# EAGLE library part FTDI (library PiB_connectors)
FTDI Basic header with labels
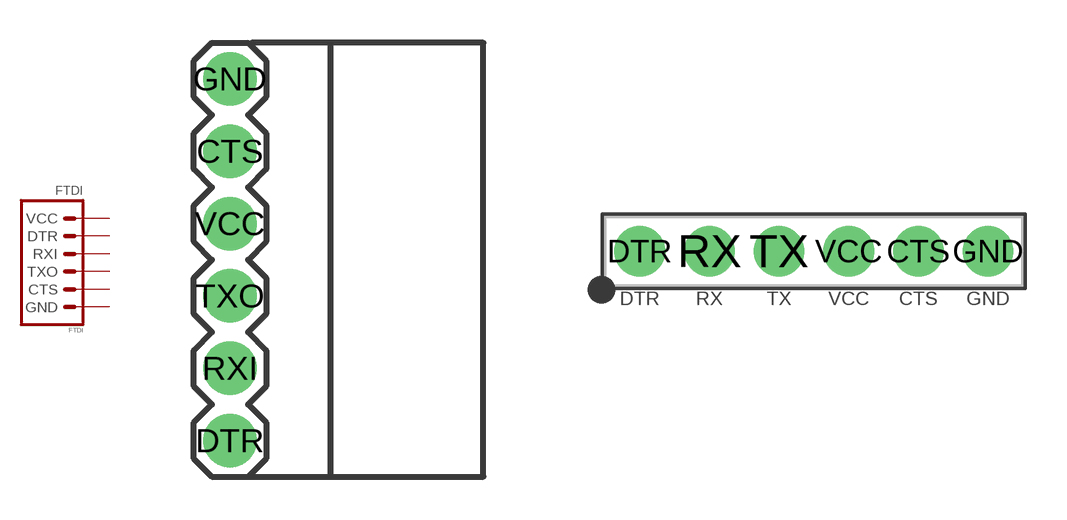
[diagram p5: symbol with the pads of FTDI_BASIC-6PIN-MALE-RA; footprints FTDI_BASIC-6PIN-MALE-RA, HDRV6W64P254_1X6_1524X254X838B_FTDI]

Designator prefix FTDI

## FTDI_PTH_RA-MALE (DATASHEET: https://media.digikey.com/pdf/Data%20Sheets/Sparkfun%20PDFs/DEV-09873_Web.pdf; DATASHEET_CONNECTOR: https://cdn.amphenol-icc.com/media/wysiwyg/files/drawing/68015.pdf; DIST: Digikey; DISTLINK: https://www.digikey.com/products/en?keywords=1568-1104-ND; DISTLINK_CONNECTOR: https://www.digikey.com/products/en?keywords=609-3327-ND; DISTPN: 1568-1104-ND; DISTPN_CONNECTOR: 609-3327-ND; DIST_CONNECTOR: Digikey; MFR: SparkFun Electronics; MFR_CONNECTOR: Amphenol FCI; MPN: DEV-09873; MPN_CONNECTOR: 68016-406HLF; VALUE: FTDI)  [FTDI_BASIC-6PIN-MALE-RA]
CTS  CTS  nc
DTR  DTR
GND  GND  pwr
RXI  RXI  in
TXO  TXO  out
VCC  VCC  nc

## FTDI_PTH_VERT_MALE_2.54MM (DATASHEET: https://media.digikey.com/pdf/Data%20Sheets/Sparkfun%20PDFs/DEV-09873_Web.pdf; DATASHEET_CONNECTOR: https://drawings-pdf.s3.amazonaws.com/C10436.pdf; DIST: Digikey; DISTLINK: https://www.digikey.com/products/en?keywords=1568-1104-ND; DISTLINK_CONNECTOR: https://www.digikey.com/products/en?keywords=PEC06SAAN; DISTPN: 1568-1104-ND; DISTPN_CONNECTOR: S1012E-06-ND; DIST_CONNECTOR: Digikey; MFR: SparkFun Electronics; MFR_CONNECTOR: Sullins Connector Solutions; MPN: DEV-09873; MPN_CONNECTOR: PEC06SAAN; VALUE: FTDI)  [HDRV6W64P254_1X6_1524X254X838B_FTDI]
CTS  CTS  nc
DTR  DTR
GND  GND  pwr
RX  RXI  in
TX  TXO  out
VCC  VCC  nc

## FTDI_PTH_RA_FEMALE_2.54MM (DATASHEET: https://drawings-pdf.s3.amazonaws.com/10493.pdf; DIST: Digikey; DISTLINK: https://www.digikey.com/products/en?keywords=PPTC061LGBN-RC; DISTPN: S5442-ND; MFR: Sullins Connector Solutions; MPN: PPTC061LGBN-RC; VALUE: PTH RA FEMALE)  [HDRRAR6W60P254_1X6_1574X850X274B_FTDI]
Pads as for HDRV6W64P254_1X6_1524X254X838B_FTDI

## Footprint FTDI_BASIC-6PIN-MALE-RA (pad centres in mm)
drill 1.016 pad 1.88: CTS 0,3.76; DTR 0,-6.4; GND 0,6.3; RXI 0,-3.86; TXO 0,-1.32; VCC 0,1.22

## Footprint HDRV6W64P254_1X6_1524X254X838B_FTDI (pad centres in mm)
Single-row, 6-pin Pin Header (Male) Straight, 2.54 mm (0.10 in) col pitch, 5.84 mm mating length, 15.24 X 2.54 X 8.38 mm body Single-row (1X6), 6-pin Pin Header (Male) Straight package with 2.54 mm (0.10 in) col pitch, 0.64 mm lead width, 3.05 mm tail length and 5.84 mm mating length with overall size 15.24 X 2.54 X 8.38 mm, pin pattern - clockwise from top left
drill 1 pad 1.85: CTS 10.16,0; DTR 0,0; GND 12.7,0; RX 2.54,0; TX 5.08,0; VCC 7.62,0

## Footprint HDRRAR6W60P254_1X6_1574X850X274B_FTDI (pad centres in mm)
Single-row, 6-pin Receptacle Header (Female) Right Angle, 2.54 mm (0.10 in) col pitch, 8.50 mm insulator length, 15.74 X 8.50 X 2.74 mm body Single-row (1X6), 6-pin Receptacle Header (Female) Right Angle package with 2.54 mm (0.10 in) col pitch, 0.60 mm lead width, 3.15 mm tail length and 8.50 mm insulator length with body size 15.74 X 8.50 X 2.74 mm, pin pattern - clockwise from top left
drill 1 pad 1.85: CTS 10.16,0; DTR 0,0; GND 12.7,0; RX 2.54,0; TX 5.08,0; VCC 7.62,0